# Altium footprint library Analog Devices Data Converters Analog-to-Digital Converters.PcbLib: 279 footprints (part 15 of 18)
Each footprint in its own frame and in the unit in brackets; x right, y up, seen from the top. Pads: shape width x height; smd on the part's side, far side on the other; paste and mask are expansions set on the pad; w line width, h text height; cw(c..) or ccw(c..) is an arc to the next point about the centre after c.
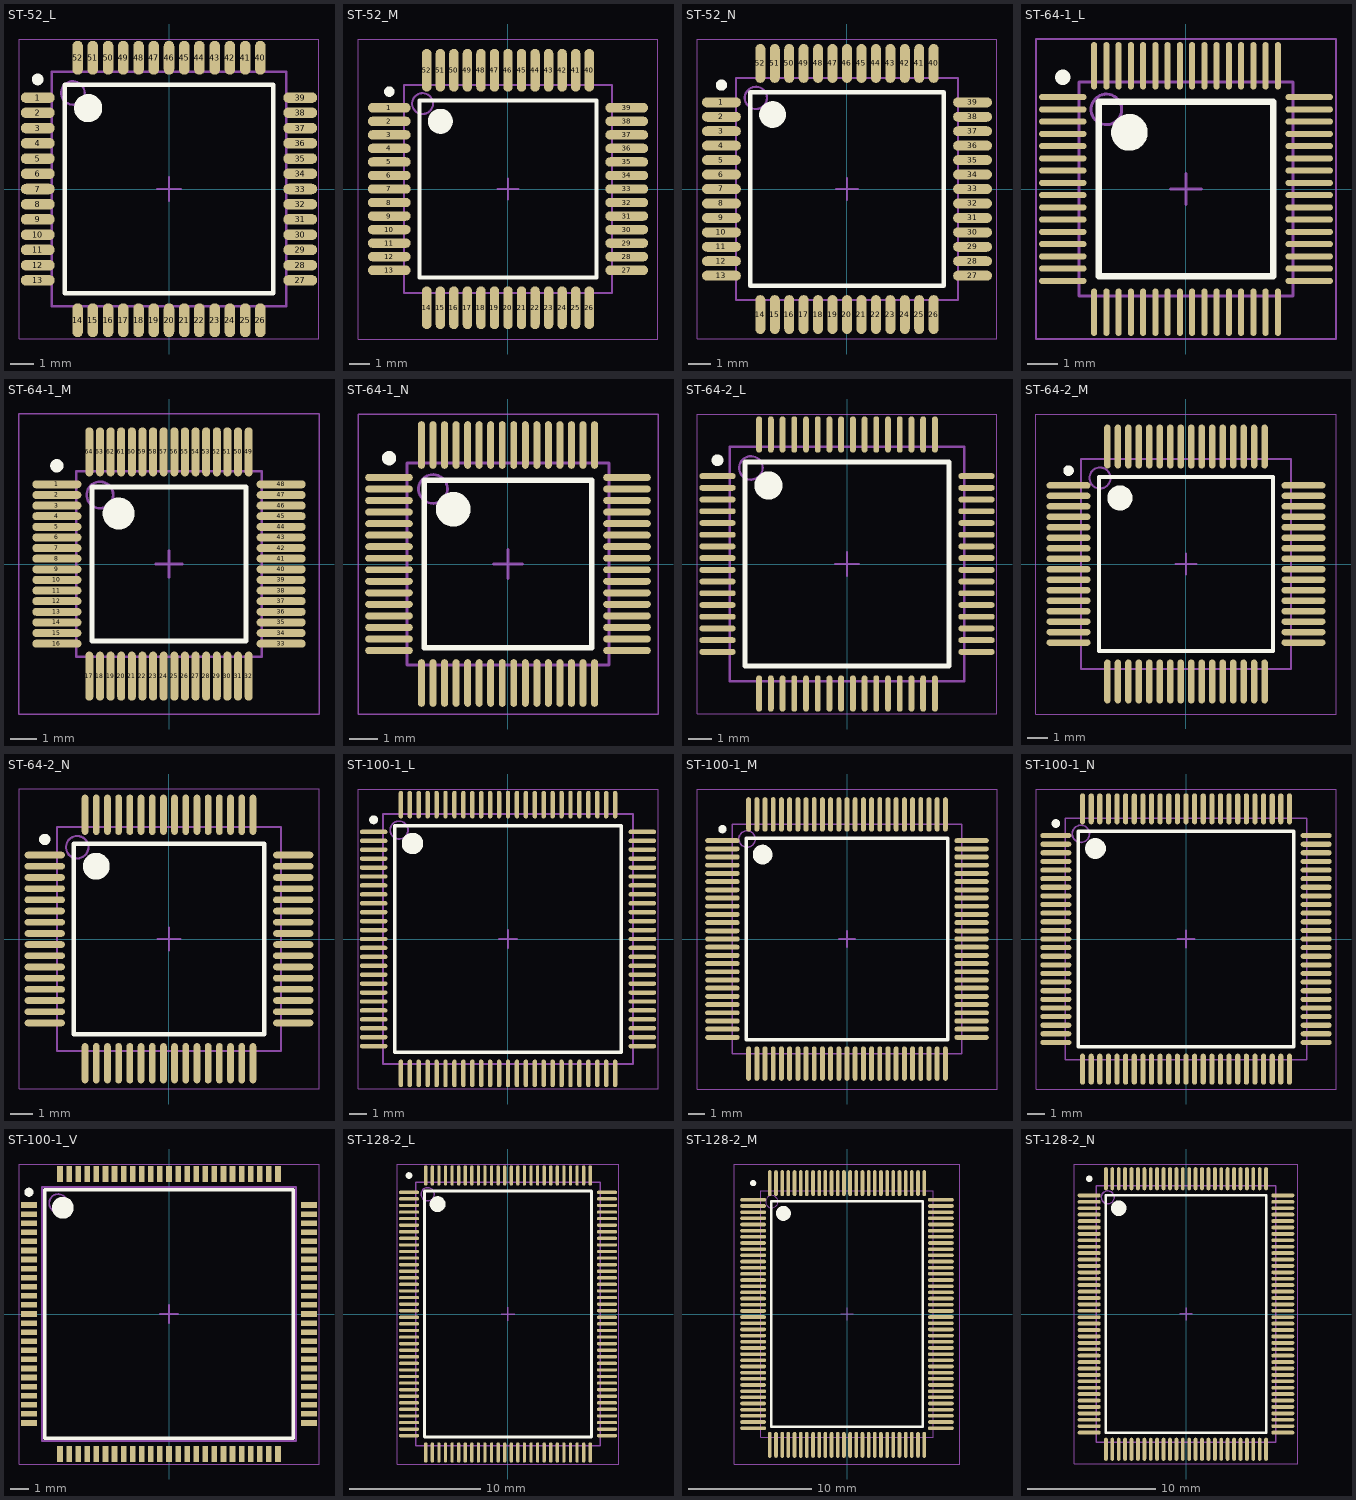
[diagram p14: the footprints below, top view; thin cyan lines are the x and y axes]

## ST-52_L [mm] "Thin QFP, 52-Leads, Body 10 x 10mm, Pitch 0.65mm, IPC High Density"
height 1.2
pads (52):
  oval 1.45x0.45 smd: 1(-5.6,3.9) 2(-5.6,3.25) 3(-5.6,2.6) 4(-5.6,1.95) 5(-5.6,1.3) 6(-5.6,0.65) 7(-5.6,0) 8(-5.6,-0.65) 9(-5.6,-1.3) 10(-5.6,-1.95) 11(-5.6,-2.6) 12(-5.6,-3.25) 13(-5.6,-3.9) 27(5.6,-3.9) 28(5.6,-3.25) 29(5.6,-2.6) 30(5.6,-1.95) 31(5.6,-1.3) 32(5.6,-0.65) 33(5.6,0) 34(5.6,0.65) 35(5.6,1.3) 36(5.6,1.95) 37(5.6,2.6) 38(5.6,3.25) 39(5.6,3.9)
  oval 0.45x1.45 smd: 14(-3.9,-5.6) 15(-3.25,-5.6) 16(-2.6,-5.6) 17(-1.95,-5.6) 18(-1.3,-5.6) 19(-0.65,-5.6) 20(0,-5.6) 21(0.65,-5.6) 22(1.3,-5.6) 23(1.95,-5.6) 24(2.6,-5.6) 25(3.25,-5.6) 26(3.9,-5.6) 40(3.9,5.6) 41(3.25,5.6) 42(2.6,5.6) 43(1.95,5.6) 44(1.3,5.6) 45(0.65,5.6) 46(0,5.6) 47(-0.65,5.6) 48(-1.3,5.6) 49(-1.95,5.6) 50(-2.6,5.6) 51(-3.25,5.6) 52(-3.9,5.6)
Top Overlay:
  circle w0.25: c-5.6,4.675 r0.125
  circle w0.6: c-3.45,3.45 r0.3
  lines w0.2: -4.45,-4.45 -4.45,4.45 4.45,4.45 4.45,-4.45 -4.45,-4.45
Mechanical 13:
  circle w0.1: c-4.1,4.1 r0.5
  lines w0.1: -5,-5 -5,5 5,5 5,-5 -5,-5
Mechanical 15:
  lines w0.05: -6.4,-6.4 -6.4,6.4 6.4,6.4 6.4,-6.4 -6.4,-6.4
  lines w0.1: -0.5,0 0.5,0 ; 0,-0.5 0,0.5
3D body: height 1.2, standoff 0, extent -5,-5 5,5

## ST-52_M [mm] "Thin QFP, 52-Leads, Body 10 x 10mm, Pitch 0.65mm, IPC Low Density"
height 1.2
pads (52):
  oval 2.05x0.45 smd: 1(-5.7,3.9) 2(-5.7,3.25) 3(-5.7,2.6) 4(-5.7,1.95) 5(-5.7,1.3) 6(-5.7,0.65) 7(-5.7,0) 8(-5.7,-0.65) 9(-5.7,-1.3) 10(-5.7,-1.95) 11(-5.7,-2.6) 12(-5.7,-3.25) 13(-5.7,-3.9) 27(5.7,-3.9) 28(5.7,-3.25) 29(5.7,-2.6) 30(5.7,-1.95) 31(5.7,-1.3) 32(5.7,-0.65) 33(5.7,0) 34(5.7,0.65) 35(5.7,1.3) 36(5.7,1.95) 37(5.7,2.6) 38(5.7,3.25) 39(5.7,3.9)
  oval 0.45x2.05 smd: 14(-3.9,-5.7) 15(-3.25,-5.7) 16(-2.6,-5.7) 17(-1.95,-5.7) 18(-1.3,-5.7) 19(-0.65,-5.7) 20(0,-5.7) 21(0.65,-5.7) 22(1.3,-5.7) 23(1.95,-5.7) 24(2.6,-5.7) 25(3.25,-5.7) 26(3.9,-5.7) 40(3.9,5.7) 41(3.25,5.7) 42(2.6,5.7) 43(1.95,5.7) 44(1.3,5.7) 45(0.65,5.7) 46(0,5.7) 47(-0.65,5.7) 48(-1.3,5.7) 49(-1.95,5.7) 50(-2.6,5.7) 51(-3.25,5.7) 52(-3.9,5.7)
Top Overlay:
  circle w0.6: c-3.25,3.25 r0.3
  circle w0.25: c-5.7,4.675 r0.125
  lines w0.2: -4.25,-4.25 4.25,-4.25 4.25,4.25 -4.25,4.25 -4.25,-4.25
Mechanical 13:
  circle w0.1: c-4.1,4.1 r0.5
  lines w0.1: -5,-5 5,-5 5,5 -5,5 -5,-5
Mechanical 15:
  lines w0.05: -7.2,-7.2 7.2,-7.2 7.2,7.2 -7.2,7.2 -7.2,-7.2
  lines w0.1: -0.5,0 0.5,0 ; 0,-0.5 0,0.5
3D body: height 1.2, standoff 0, extent -5,-5 5,5

## ST-52_N [mm] "Thin QFP, 52-Leads, Body 10 x 10mm, Pitch 0.65mm, IPC Medium Density"
height 1.2
pads (52):
  oval 1.75x0.45 smd: 1(-5.65,3.9) 2(-5.65,3.25) 3(-5.65,2.6) 4(-5.65,1.95) 5(-5.65,1.3) 6(-5.65,0.65) 7(-5.65,0) 8(-5.65,-0.65) 9(-5.65,-1.3) 10(-5.65,-1.95) 11(-5.65,-2.6) 12(-5.65,-3.25) 13(-5.65,-3.9) 27(5.65,-3.9) 28(5.65,-3.25) 29(5.65,-2.6) 30(5.65,-1.95) 31(5.65,-1.3) 32(5.65,-0.65) 33(5.65,0) 34(5.65,0.65) 35(5.65,1.3) 36(5.65,1.95) 37(5.65,2.6) 38(5.65,3.25) 39(5.65,3.9)
  oval 0.45x1.75 smd: 14(-3.9,-5.65) 15(-3.25,-5.65) 16(-2.6,-5.65) 17(-1.95,-5.65) 18(-1.3,-5.65) 19(-0.65,-5.65) 20(0,-5.65) 21(0.65,-5.65) 22(1.3,-5.65) 23(1.95,-5.65) 24(2.6,-5.65) 25(3.25,-5.65) 26(3.9,-5.65) 40(3.9,5.65) 41(3.25,5.65) 42(2.6,5.65) 43(1.95,5.65) 44(1.3,5.65) 45(0.65,5.65) 46(0,5.65) 47(-0.65,5.65) 48(-1.3,5.65) 49(-1.95,5.65) 50(-2.6,5.65) 51(-3.25,5.65) 52(-3.9,5.65)
Top Overlay:
  circle w0.25: c-5.65,4.675 r0.125
  circle w0.6: c-3.35,3.35 r0.3
  lines w0.2: -4.35,-4.35 -4.35,4.35 4.35,4.35 4.35,-4.35 -4.35,-4.35
Mechanical 13:
  circle w0.1: c-4.1,4.1 r0.5
  lines w0.1: -5,-5 -5,5 5,5 5,-5 -5,-5
Mechanical 15:
  lines w0.05: -6.75,-6.75 -6.75,6.75 6.75,6.75 6.75,-6.75 -6.75,-6.75
  lines w0.1: -0.5,0 0.5,0 ; 0,-0.5 0,0.5
3D body: height 1.2, standoff 0, extent -5,-5 5,5

## ST-64-1_L [mm] "Thin QFP, 64-Leads, Body 7x7mm, Pitch 0.4mm, IPC High Density"
height 1.6
pads (64):
  oval 1.55x0.2 smd: 1(-4.025,3) 2(-4.025,2.6) 3(-4.025,2.2) 4(-4.025,1.8) 5(-4.025,1.4) 6(-4.025,1) 7(-4.025,0.6) 8(-4.025,0.2) 9(-4.025,-0.2) 10(-4.025,-0.6) 11(-4.025,-1) 12(-4.025,-1.4) 13(-4.025,-1.8) 14(-4.025,-2.2) 15(-4.025,-2.6) 16(-4.025,-3) 33(4.025,-3) 34(4.025,-2.6) 35(4.025,-2.2) 36(4.025,-1.8) 37(4.025,-1.4) 38(4.025,-1) 39(4.025,-0.6) 40(4.025,-0.2) 41(4.025,0.2) 42(4.025,0.6) 43(4.025,1) 44(4.025,1.4) 45(4.025,1.8) 46(4.025,2.2) 47(4.025,2.6) 48(4.025,3)
  oval 0.2x1.55 smd: 17(-3,-4.025) 18(-2.6,-4.025) 19(-2.2,-4.025) 20(-1.8,-4.025) 21(-1.4,-4.025) 22(-1,-4.025) 23(-0.6,-4.025) 24(-0.2,-4.025) 25(0.2,-4.025) 26(0.6,-4.025) 27(1,-4.025) 28(1.4,-4.025) 29(1.8,-4.025) 30(2.2,-4.025) 31(2.6,-4.025) 32(3,-4.025) 49(3,4.025) 50(2.6,4.025) 51(2.2,4.025) 52(1.8,4.025) 53(1.4,4.025) 54(1,4.025) 55(0.6,4.025) 56(0.2,4.025) 57(-0.2,4.025) 58(-0.6,4.025) 59(-1,4.025) 60(-1.4,4.025) 61(-1.8,4.025) 62(-2.2,4.025) 63(-2.6,4.025) 64(-3,4.025)
Top Overlay:
  circle w0.25: c-4.025,3.65 r0.125
  circle w0.6: c-1.85,1.85 r0.3
  lines w0.2: -2.85,-2.85 -2.85,2.85 2.85,2.85 2.85,-2.85 -2.85,-2.85
Mechanical 13:
  circle w0.1: c-2.6,2.6 r0.5
  lines w0.1: -3.5,-3.5 -3.5,3.5 3.5,3.5 3.5,-3.5 -3.5,-3.5
Mechanical 15:
  lines w0.05: -4.9,-4.9 -4.9,4.9 4.9,4.9 4.9,-4.9 -4.9,-4.9
  lines w0.1: -0.5,0 0.5,0 ; 0,-0.5 0,0.5
3D body: height 1.6, standoff 0.05, extent -3.5,-3.5 3.5,3.5

## ST-64-1_M [mm] "Thin QFP, 64-Leads, Body 7x7mm, Pitch 0.4mm, IPC Low Density"
height 1.6
pads (64):
  oval 1.85x0.3 smd: 1(-4.225,3) 2(-4.225,2.6) 3(-4.225,2.2) 4(-4.225,1.8) 5(-4.225,1.4) 6(-4.225,1) 7(-4.225,0.6) 8(-4.225,0.2) 9(-4.225,-0.2) 10(-4.225,-0.6) 11(-4.225,-1) 12(-4.225,-1.4) 13(-4.225,-1.8) 14(-4.225,-2.2) 15(-4.225,-2.6) 16(-4.225,-3) 33(4.225,-3) 34(4.225,-2.6) 35(4.225,-2.2) 36(4.225,-1.8) 37(4.225,-1.4) 38(4.225,-1) 39(4.225,-0.6) 40(4.225,-0.2) 41(4.225,0.2) 42(4.225,0.6) 43(4.225,1) 44(4.225,1.4) 45(4.225,1.8) 46(4.225,2.2) 47(4.225,2.6) 48(4.225,3)
  oval 0.3x1.85 smd: 17(-3,-4.225) 18(-2.6,-4.225) 19(-2.2,-4.225) 20(-1.8,-4.225) 21(-1.4,-4.225) 22(-1,-4.225) 23(-0.6,-4.225) 24(-0.2,-4.225) 25(0.2,-4.225) 26(0.6,-4.225) 27(1,-4.225) 28(1.4,-4.225) 29(1.8,-4.225) 30(2.2,-4.225) 31(2.6,-4.225) 32(3,-4.225) 49(3,4.225) 50(2.6,4.225) 51(2.2,4.225) 52(1.8,4.225) 53(1.4,4.225) 54(1,4.225) 55(0.6,4.225) 56(0.2,4.225) 57(-0.2,4.225) 58(-0.6,4.225) 59(-1,4.225) 60(-1.4,4.225) 61(-1.8,4.225) 62(-2.2,4.225) 63(-2.6,4.225) 64(-3,4.225)
Top Overlay:
  circle w0.25: c-4.225,3.7 r0.125
  circle w0.6: c-1.9,1.9 r0.3
  lines w0.2: -2.9,-2.9 -2.9,2.9 2.9,2.9 2.9,-2.9 -2.9,-2.9
Mechanical 13:
  circle w0.1: c-2.6,2.6 r0.5
  lines w0.1: -3.5,-3.5 -3.5,3.5 3.5,3.5 3.5,-3.5 -3.5,-3.5
Mechanical 15:
  lines w0.05: -5.65,-5.65 -5.65,5.65 5.65,5.65 5.65,-5.65 -5.65,-5.65
  lines w0.1: -0.5,0 0.5,0 ; 0,-0.5 0,0.5
3D body: height 1.6, standoff 0.05, extent -3.5,-3.5 3.5,3.5

## ST-64-1_N [mm] "Thin QFP, 64-Leads, Body 7x7mm, Pitch 0.4mm, IPC Medium Density"
height 1.6
pads (64):
  oval 1.65x0.24 smd: 1(-4.125,3) 2(-4.125,2.6) 3(-4.125,2.2) 4(-4.125,1.8) 5(-4.125,1.4) 6(-4.125,1) 7(-4.125,0.6) 8(-4.125,0.2) 9(-4.125,-0.2) 10(-4.125,-0.6) 11(-4.125,-1) 12(-4.125,-1.4) 13(-4.125,-1.8) 14(-4.125,-2.2) 15(-4.125,-2.6) 16(-4.125,-3) 33(4.125,-3) 34(4.125,-2.6) 35(4.125,-2.2) 36(4.125,-1.8) 37(4.125,-1.4) 38(4.125,-1) 39(4.125,-0.6) 40(4.125,-0.2) 41(4.125,0.2) 42(4.125,0.6) 43(4.125,1) 44(4.125,1.4) 45(4.125,1.8) 46(4.125,2.2) 47(4.125,2.6) 48(4.125,3)
  oval 0.24x1.65 smd: 17(-3,-4.125) 18(-2.6,-4.125) 19(-2.2,-4.125) 20(-1.8,-4.125) 21(-1.4,-4.125) 22(-1,-4.125) 23(-0.6,-4.125) 24(-0.2,-4.125) 25(0.2,-4.125) 26(0.6,-4.125) 27(1,-4.125) 28(1.4,-4.125) 29(1.8,-4.125) 30(2.2,-4.125) 31(2.6,-4.125) 32(3,-4.125) 49(3,4.125) 50(2.6,4.125) 51(2.2,4.125) 52(1.8,4.125) 53(1.4,4.125) 54(1,4.125) 55(0.6,4.125) 56(0.2,4.125) 57(-0.2,4.125) 58(-0.6,4.125) 59(-1,4.125) 60(-1.4,4.125) 61(-1.8,4.125) 62(-2.2,4.125) 63(-2.6,4.125) 64(-3,4.125)
Top Overlay:
  circle w0.6: c-1.9,1.9 r0.3
  circle w0.25: c-4.125,3.67 r0.125
  lines w0.2: -2.9,-2.9 2.9,-2.9 2.9,2.9 -2.9,2.9 -2.9,-2.9
Mechanical 13:
  circle w0.1: c-2.6,2.6 r0.5
  lines w0.1: -3.5,-3.5 3.5,-3.5 3.5,3.5 -3.5,3.5 -3.5,-3.5
Mechanical 15:
  lines w0.05: -5.2,-5.2 5.2,-5.2 5.2,5.2 -5.2,5.2 -5.2,-5.2
  lines w0.1: -0.5,0 0.5,0 ; 0,-0.5 0,0.5
3D body: height 1.6, standoff 0.05, extent -3.5,-3.5 3.5,3.5

## ST-64-2_L [mm] "Thin QFP, 64-Leads, Body 10x10mm, Pitch 0.5mm, IPC High Density"
height 1.6
pads (64):
  oval 1.55x0.25 smd: 1(-5.525,3.75) 2(-5.525,3.25) 3(-5.525,2.75) 4(-5.525,2.25) 5(-5.525,1.75) 6(-5.525,1.25) 7(-5.525,0.75) 8(-5.525,0.25) 9(-5.525,-0.25) 10(-5.525,-0.75) 11(-5.525,-1.25) 12(-5.525,-1.75) 13(-5.525,-2.25) 14(-5.525,-2.75) 15(-5.525,-3.25) 16(-5.525,-3.75) 33(5.525,-3.75) 34(5.525,-3.25) 35(5.525,-2.75) 36(5.525,-2.25) 37(5.525,-1.75) 38(5.525,-1.25) 39(5.525,-0.75) 40(5.525,-0.25) 41(5.525,0.25) 42(5.525,0.75) 43(5.525,1.25) 44(5.525,1.75) 45(5.525,2.25) 46(5.525,2.75) 47(5.525,3.25) 48(5.525,3.75)
  oval 0.25x1.55 smd: 17(-3.75,-5.525) 18(-3.25,-5.525) 19(-2.75,-5.525) 20(-2.25,-5.525) 21(-1.75,-5.525) 22(-1.25,-5.525) 23(-0.75,-5.525) 24(-0.25,-5.525) 25(0.25,-5.525) 26(0.75,-5.525) 27(1.25,-5.525) 28(1.75,-5.525) 29(2.25,-5.525) 30(2.75,-5.525) 31(3.25,-5.525) 32(3.75,-5.525) 49(3.75,5.525) 50(3.25,5.525) 51(2.75,5.525) 52(2.25,5.525) 53(1.75,5.525) 54(1.25,5.525) 55(0.75,5.525) 56(0.25,5.525) 57(-0.25,5.525) 58(-0.75,5.525) 59(-1.25,5.525) 60(-1.75,5.525) 61(-2.25,5.525) 62(-2.75,5.525) 63(-3.25,5.525) 64(-3.75,5.525)
Top Overlay:
  circle w0.25: c-5.525,4.425 r0.125
  circle w0.6: c-3.35,3.35 r0.3
  lines w0.2: -4.35,-4.35 -4.35,4.35 4.35,4.35 4.35,-4.35 -4.35,-4.35
Mechanical 13:
  circle w0.1: c-4.1,4.1 r0.5
  lines w0.1: -5,-5 -5,5 5,5 5,-5 -5,-5
Mechanical 15:
  lines w0.05: -6.4,-6.4 -6.4,6.4 6.4,6.4 6.4,-6.4 -6.4,-6.4
  lines w0.1: -0.5,0 0.5,0 ; 0,-0.5 0,0.5
3D body: height 1.6, standoff 0, extent -5,-5 5,5

## ST-64-2_M [mm] "Thin QFP, 64-Leads, Body 10x10mm, Pitch 0.5mm, IPC Low Density"
height 1.6
pads (64):
  oval 2.1x0.3 smd: 1(-5.6,3.75) 2(-5.6,3.25) 3(-5.6,2.75) 4(-5.6,2.25) 5(-5.6,1.75) 6(-5.6,1.25) 7(-5.6,0.75) 8(-5.6,0.25) 9(-5.6,-0.25) 10(-5.6,-0.75) 11(-5.6,-1.25) 12(-5.6,-1.75) 13(-5.6,-2.25) 14(-5.6,-2.75) 15(-5.6,-3.25) 16(-5.6,-3.75) 33(5.6,-3.75) 34(5.6,-3.25) 35(5.6,-2.75) 36(5.6,-2.25) 37(5.6,-1.75) 38(5.6,-1.25) 39(5.6,-0.75) 40(5.6,-0.25) 41(5.6,0.25) 42(5.6,0.75) 43(5.6,1.25) 44(5.6,1.75) 45(5.6,2.25) 46(5.6,2.75) 47(5.6,3.25) 48(5.6,3.75)
  oval 0.3x2.1 smd: 17(-3.75,-5.6) 18(-3.25,-5.6) 19(-2.75,-5.6) 20(-2.25,-5.6) 21(-1.75,-5.6) 22(-1.25,-5.6) 23(-0.75,-5.6) 24(-0.25,-5.6) 25(0.25,-5.6) 26(0.75,-5.6) 27(1.25,-5.6) 28(1.75,-5.6) 29(2.25,-5.6) 30(2.75,-5.6) 31(3.25,-5.6) 32(3.75,-5.6) 49(3.75,5.6) 50(3.25,5.6) 51(2.75,5.6) 52(2.25,5.6) 53(1.75,5.6) 54(1.25,5.6) 55(0.75,5.6) 56(0.25,5.6) 57(-0.25,5.6) 58(-0.75,5.6) 59(-1.25,5.6) 60(-1.75,5.6) 61(-2.25,5.6) 62(-2.75,5.6) 63(-3.25,5.6) 64(-3.75,5.6)
Top Overlay:
  circle w0.25: c-5.6,4.45 r0.125
  circle w0.6: c-3.15,3.15 r0.3
  lines w0.2: -4.15,-4.15 -4.15,4.15 4.15,4.15 4.15,-4.15 -4.15,-4.15
Mechanical 13:
  circle w0.1: c-4.1,4.1 r0.5
  lines w0.1: -5,-5 -5,5 5,5 5,-5 -5,-5
Mechanical 15:
  lines w0.05: -7.15,-7.15 -7.15,7.15 7.15,7.15 7.15,-7.15 -7.15,-7.15
  lines w0.1: -0.5,0 0.5,0 ; 0,-0.5 0,0.5
3D body: height 1.6, standoff 0, extent -5,-5 5,5

## ST-64-2_N [mm] "Thin QFP, 64-Leads, Body 10x10mm, Pitch 0.5mm, IPC Medium Density"
height 1.6
pads (64):
  oval 1.8x0.3 smd: 1(-5.55,3.75) 2(-5.55,3.25) 3(-5.55,2.75) 4(-5.55,2.25) 5(-5.55,1.75) 6(-5.55,1.25) 7(-5.55,0.75) 8(-5.55,0.25) 9(-5.55,-0.25) 10(-5.55,-0.75) 11(-5.55,-1.25) 12(-5.55,-1.75) 13(-5.55,-2.25) 14(-5.55,-2.75) 15(-5.55,-3.25) 16(-5.55,-3.75) 33(5.55,-3.75) 34(5.55,-3.25) 35(5.55,-2.75) 36(5.55,-2.25) 37(5.55,-1.75) 38(5.55,-1.25) 39(5.55,-0.75) 40(5.55,-0.25) 41(5.55,0.25) 42(5.55,0.75) 43(5.55,1.25) 44(5.55,1.75) 45(5.55,2.25) 46(5.55,2.75) 47(5.55,3.25) 48(5.55,3.75)
  oval 0.3x1.8 smd: 17(-3.75,-5.55) 18(-3.25,-5.55) 19(-2.75,-5.55) 20(-2.25,-5.55) 21(-1.75,-5.55) 22(-1.25,-5.55) 23(-0.75,-5.55) 24(-0.25,-5.55) 25(0.25,-5.55) 26(0.75,-5.55) 27(1.25,-5.55) 28(1.75,-5.55) 29(2.25,-5.55) 30(2.75,-5.55) 31(3.25,-5.55) 32(3.75,-5.55) 49(3.75,5.55) 50(3.25,5.55) 51(2.75,5.55) 52(2.25,5.55) 53(1.75,5.55) 54(1.25,5.55) 55(0.75,5.55) 56(0.25,5.55) 57(-0.25,5.55) 58(-0.75,5.55) 59(-1.25,5.55) 60(-1.75,5.55) 61(-2.25,5.55) 62(-2.75,5.55) 63(-3.25,5.55) 64(-3.75,5.55)
Top Overlay:
  circle w0.6: c-3.25,3.25 r0.3
  circle w0.25: c-5.55,4.45 r0.125
  lines w0.2: -4.25,-4.25 4.25,-4.25 4.25,4.25 -4.25,4.25 -4.25,-4.25
Mechanical 13:
  circle w0.1: c-4.1,4.1 r0.5
  lines w0.1: -5,-5 5,-5 5,5 -5,5 -5,-5
Mechanical 15:
  lines w0.05: -6.7,-6.7 6.7,-6.7 6.7,6.7 -6.7,6.7 -6.7,-6.7
  lines w0.1: -0.5,0 0.5,0 ; 0,-0.5 0,0.5
3D body: height 1.6, standoff 0, extent -5,-5 5,5

## ST-100-1_L [mm] "Thin QFP, 100-Leads, Body 14x14mm, Pitch 0.5mm, IPC High Density"
height 1.6
pads (100):
  oval 1.55x0.25 smd: 1(-7.525,6) 2(-7.525,5.5) 3(-7.525,5) 4(-7.525,4.5) 5(-7.525,4) 6(-7.525,3.5) 7(-7.525,3) 8(-7.525,2.5) 9(-7.525,2) 10(-7.525,1.5) 11(-7.525,1) 12(-7.525,0.5) 13(-7.525,0) 14(-7.525,-0.5) 15(-7.525,-1) 16(-7.525,-1.5) 17(-7.525,-2) 18(-7.525,-2.5) 19(-7.525,-3) 20(-7.525,-3.5) 21(-7.525,-4) 22(-7.525,-4.5) 23(-7.525,-5) 24(-7.525,-5.5) 25(-7.525,-6) 51(7.525,-6) 52(7.525,-5.5) 53(7.525,-5) 54(7.525,-4.5) 55(7.525,-4) 56(7.525,-3.5) 57(7.525,-3) 58(7.525,-2.5) 59(7.525,-2) 60(7.525,-1.5) 61(7.525,-1) 62(7.525,-0.5) 63(7.525,0) 64(7.525,0.5) 65(7.525,1) 66(7.525,1.5) 67(7.525,2) 68(7.525,2.5) 69(7.525,3) 70(7.525,3.5) 71(7.525,4) 72(7.525,4.5) 73(7.525,5) 74(7.525,5.5) 75(7.525,6)
  oval 0.25x1.55 smd: 26(-6,-7.525) 27(-5.5,-7.525) 28(-5,-7.525) 29(-4.5,-7.525) 30(-4,-7.525) 31(-3.5,-7.525) 32(-3,-7.525) 33(-2.5,-7.525) 34(-2,-7.525) 35(-1.5,-7.525) 36(-1,-7.525) 37(-0.5,-7.525) 38(0,-7.525) 39(0.5,-7.525) 40(1,-7.525) 41(1.5,-7.525) 42(2,-7.525) 43(2.5,-7.525) 44(3,-7.525) 45(3.5,-7.525) 46(4,-7.525) 47(4.5,-7.525) 48(5,-7.525) 49(5.5,-7.525) 50(6,-7.525) 76(6,7.525) 77(5.5,7.525) 78(5,7.525) 79(4.5,7.525) 80(4,7.525) 81(3.5,7.525) 82(3,7.525) 83(2.5,7.525) 84(2,7.525) 85(1.5,7.525) 86(1,7.525) 87(0.5,7.525) 88(0,7.525) 89(-0.5,7.525) 90(-1,7.525) 91(-1.5,7.525) 92(-2,7.525) 93(-2.5,7.525) 94(-3,7.525) 95(-3.5,7.525) 96(-4,7.525) 97(-4.5,7.525) 98(-5,7.525) 99(-5.5,7.525) 100(-6,7.525)
Top Overlay:
  circle w0.25: c-7.525,6.675 r0.125
  circle w0.6: c-5.35,5.35 r0.3
  lines w0.2: -6.35,-6.35 -6.35,6.35 6.35,6.35 6.35,-6.35 -6.35,-6.35
Mechanical 13:
  circle w0.1: c-6.1,6.1 r0.5
  lines w0.1: -7,-7 -7,7 7,7 7,-7 -7,-7
Mechanical 15:
  lines w0.05: -8.4,-8.4 -8.4,8.4 8.4,8.4 8.4,-8.4 -8.4,-8.4
  lines w0.1: -0.5,0 0.5,0 ; 0,-0.5 0,0.5
3D body: height 1.6, standoff 0, extent -7,-7 7,7

## ST-100-1_M [mm] "Thin QFP, 100-Leads, Body 14x14mm, Pitch 0.5mm, IPC Low Density"
height 1.6
pads (100):
  oval 2.1x0.3 smd: 1(-7.6,6) 2(-7.6,5.5) 3(-7.6,5) 4(-7.6,4.5) 5(-7.6,4) 6(-7.6,3.5) 7(-7.6,3) 8(-7.6,2.5) 9(-7.6,2) 10(-7.6,1.5) 11(-7.6,1) 12(-7.6,0.5) 13(-7.6,0) 14(-7.6,-0.5) 15(-7.6,-1) 16(-7.6,-1.5) 17(-7.6,-2) 18(-7.6,-2.5) 19(-7.6,-3) 20(-7.6,-3.5) 21(-7.6,-4) 22(-7.6,-4.5) 23(-7.6,-5) 24(-7.6,-5.5) 25(-7.6,-6) 51(7.6,-6) 52(7.6,-5.5) 53(7.6,-5) 54(7.6,-4.5) 55(7.6,-4) 56(7.6,-3.5) 57(7.6,-3) 58(7.6,-2.5) 59(7.6,-2) 60(7.6,-1.5) 61(7.6,-1) 62(7.6,-0.5) 63(7.6,0) 64(7.6,0.5) 65(7.6,1) 66(7.6,1.5) 67(7.6,2) 68(7.6,2.5) 69(7.6,3) 70(7.6,3.5) 71(7.6,4) 72(7.6,4.5) 73(7.6,5) 74(7.6,5.5) 75(7.6,6)
  oval 0.3x2.1 smd: 26(-6,-7.6) 27(-5.5,-7.6) 28(-5,-7.6) 29(-4.5,-7.6) 30(-4,-7.6) 31(-3.5,-7.6) 32(-3,-7.6) 33(-2.5,-7.6) 34(-2,-7.6) 35(-1.5,-7.6) 36(-1,-7.6) 37(-0.5,-7.6) 38(0,-7.6) 39(0.5,-7.6) 40(1,-7.6) 41(1.5,-7.6) 42(2,-7.6) 43(2.5,-7.6) 44(3,-7.6) 45(3.5,-7.6) 46(4,-7.6) 47(4.5,-7.6) 48(5,-7.6) 49(5.5,-7.6) 50(6,-7.6) 76(6,7.6) 77(5.5,7.6) 78(5,7.6) 79(4.5,7.6) 80(4,7.6) 81(3.5,7.6) 82(3,7.6) 83(2.5,7.6) 84(2,7.6) 85(1.5,7.6) 86(1,7.6) 87(0.5,7.6) 88(0,7.6) 89(-0.5,7.6) 90(-1,7.6) 91(-1.5,7.6) 92(-2,7.6) 93(-2.5,7.6) 94(-3,7.6) 95(-3.5,7.6) 96(-4,7.6) 97(-4.5,7.6) 98(-5,7.6) 99(-5.5,7.6) 100(-6,7.6)
Top Overlay:
  circle w0.25: c-7.6,6.7 r0.125
  circle w0.6: c-5.15,5.15 r0.3
  lines w0.2: -6.15,-6.15 -6.15,6.15 6.15,6.15 6.15,-6.15 -6.15,-6.15
Mechanical 13:
  circle w0.1: c-6.1,6.1 r0.5
  lines w0.1: -7,-7 -7,7 7,7 7,-7 -7,-7
Mechanical 15:
  lines w0.05: -9.15,-9.15 -9.15,9.15 9.15,9.15 9.15,-9.15 -9.15,-9.15
  lines w0.1: -0.5,0 0.5,0 ; 0,-0.5 0,0.5
3D body: height 1.6, standoff 0, extent -7,-7 7,7

## ST-100-1_N [mm] "Thin QFP, 100-Leads, Body 14x14mm, Pitch 0.5mm, IPC Medium Density"
height 1.6
pads (100):
  oval 1.8x0.3 smd: 1(-7.55,6) 2(-7.55,5.5) 3(-7.55,5) 4(-7.55,4.5) 5(-7.55,4) 6(-7.55,3.5) 7(-7.55,3) 8(-7.55,2.5) 9(-7.55,2) 10(-7.55,1.5) 11(-7.55,1) 12(-7.55,0.5) 13(-7.55,0) 14(-7.55,-0.5) 15(-7.55,-1) 16(-7.55,-1.5) 17(-7.55,-2) 18(-7.55,-2.5) 19(-7.55,-3) 20(-7.55,-3.5) 21(-7.55,-4) 22(-7.55,-4.5) 23(-7.55,-5) 24(-7.55,-5.5) 25(-7.55,-6) 51(7.55,-6) 52(7.55,-5.5) 53(7.55,-5) 54(7.55,-4.5) 55(7.55,-4) 56(7.55,-3.5) 57(7.55,-3) 58(7.55,-2.5) 59(7.55,-2) 60(7.55,-1.5) 61(7.55,-1) 62(7.55,-0.5) 63(7.55,0) 64(7.55,0.5) 65(7.55,1) 66(7.55,1.5) 67(7.55,2) 68(7.55,2.5) 69(7.55,3) 70(7.55,3.5) 71(7.55,4) 72(7.55,4.5) 73(7.55,5) 74(7.55,5.5) 75(7.55,6)
  oval 0.3x1.8 smd: 26(-6,-7.55) 27(-5.5,-7.55) 28(-5,-7.55) 29(-4.5,-7.55) 30(-4,-7.55) 31(-3.5,-7.55) 32(-3,-7.55) 33(-2.5,-7.55) 34(-2,-7.55) 35(-1.5,-7.55) 36(-1,-7.55) 37(-0.5,-7.55) 38(0,-7.55) 39(0.5,-7.55) 40(1,-7.55) 41(1.5,-7.55) 42(2,-7.55) 43(2.5,-7.55) 44(3,-7.55) 45(3.5,-7.55) 46(4,-7.55) 47(4.5,-7.55) 48(5,-7.55) 49(5.5,-7.55) 50(6,-7.55) 76(6,7.55) 77(5.5,7.55) 78(5,7.55) 79(4.5,7.55) 80(4,7.55) 81(3.5,7.55) 82(3,7.55) 83(2.5,7.55) 84(2,7.55) 85(1.5,7.55) 86(1,7.55) 87(0.5,7.55) 88(0,7.55) 89(-0.5,7.55) 90(-1,7.55) 91(-1.5,7.55) 92(-2,7.55) 93(-2.5,7.55) 94(-3,7.55) 95(-3.5,7.55) 96(-4,7.55) 97(-4.5,7.55) 98(-5,7.55) 99(-5.5,7.55) 100(-6,7.55)
Top Overlay:
  circle w0.6: c-5.25,5.25 r0.3
  circle w0.25: c-7.55,6.7 r0.125
  lines w0.2: -6.25,-6.25 6.25,-6.25 6.25,6.25 -6.25,6.25 -6.25,-6.25
Mechanical 13:
  circle w0.1: c-6.1,6.1 r0.5
  lines w0.1: -7,-7 7,-7 7,7 -7,7 -7,-7
Mechanical 15:
  lines w0.05: -8.7,-8.7 8.7,-8.7 8.7,8.7 -8.7,8.7 -8.7,-8.7
  lines w0.1: -0.5,0 0.5,0 ; 0,-0.5 0,0.5
3D body: height 1.6, standoff 0, extent -7,-7 7,7

## ST-100-1_V [mm] "Thin QFP, 100-Leads, Body 14x14mm, Pitch 0.5mm, AD Recommended"
height 1.6
pads (100):
  rect 0.89x0.31 smd: 1(-7.715,6) 2(-7.715,5.5) 3(-7.715,5) 4(-7.715,4.5) 5(-7.715,4) 6(-7.715,3.5) 7(-7.715,3) 8(-7.715,2.5) 9(-7.715,2) 10(-7.715,1.5) 11(-7.715,1) 12(-7.715,0.5) 13(-7.715,0) 14(-7.715,-0.5) 15(-7.715,-1) 16(-7.715,-1.5) 17(-7.715,-2) 18(-7.715,-2.5) 19(-7.715,-3) 20(-7.715,-3.5) 21(-7.715,-4) 22(-7.715,-4.5) 23(-7.715,-5) 24(-7.715,-5.5) 25(-7.715,-6) 51(7.715,-6) 52(7.715,-5.5) 53(7.715,-5) 54(7.715,-4.5) 55(7.715,-4) 56(7.715,-3.5) 57(7.715,-3) 58(7.715,-2.5) 59(7.715,-2) 60(7.715,-1.5) 61(7.715,-1) 62(7.715,-0.5) 63(7.715,0) 64(7.715,0.5) 65(7.715,1) 66(7.715,1.5) 67(7.715,2) 68(7.715,2.5) 69(7.715,3) 70(7.715,3.5) 71(7.715,4) 72(7.715,4.5) 73(7.715,5) 74(7.715,5.5) 75(7.715,6)
  rect 0.31x0.89 smd: 26(-6,-7.715) 27(-5.5,-7.715) 28(-5,-7.715) 29(-4.5,-7.715) 30(-4,-7.715) 31(-3.5,-7.715) 32(-3,-7.715) 33(-2.5,-7.715) 34(-2,-7.715) 35(-1.5,-7.715) 36(-1,-7.715) 37(-0.5,-7.715) 38(0,-7.715) 39(0.5,-7.715) 40(1,-7.715) 41(1.5,-7.715) 42(2,-7.715) 43(2.5,-7.715) 44(3,-7.715) 45(3.5,-7.715) 46(4,-7.715) 47(4.5,-7.715) 48(5,-7.715) 49(5.5,-7.715) 50(6,-7.715) 76(6,7.715) 77(5.5,7.715) 78(5,7.715) 79(4.5,7.715) 80(4,7.715) 81(3.5,7.715) 82(3,7.715) 83(2.5,7.715) 84(2,7.715) 85(1.5,7.715) 86(1,7.715) 87(0.5,7.715) 88(0,7.715) 89(-0.5,7.715) 90(-1,7.715) 91(-1.5,7.715) 92(-2,7.715) 93(-2.5,7.715) 94(-3,7.715) 95(-3.5,7.715) 96(-4,7.715) 97(-4.5,7.715) 98(-5,7.715) 99(-5.5,7.715) 100(-6,7.715)
Top Overlay:
  circle w0.6: c-5.85,5.85 r0.3
  circle w0.25: c-7.715,6.705 r0.125
  lines w0.2: -6.85,-6.85 6.85,-6.85 6.85,6.85 -6.85,6.85 -6.85,-6.85
Mechanical 13:
  circle w0.1: c-6.1,6.1 r0.5
  lines w0.1: -7,-7 7,-7 7,7 -7,7 -7,-7
Mechanical 15:
  lines w0.05: -8.26,-8.26 8.26,-8.26 8.26,8.26 -8.26,8.26 -8.26,-8.26
  lines w0.1: -0.5,0 0.5,0 ; 0,-0.5 0,0.5
3D body: height 1.6, standoff 0, extent -7,-7 7,7

## ST-128-2_L [mm] "Thin QFP, 128-Leads, Body 20x14 mm, Pitch 0.5mm, IPC High Density"
height 1.6
pads (128):
  oval 1.55x0.25 smd: 1(-7.525,9.25) 2(-7.525,8.75) 3(-7.525,8.25) 4(-7.525,7.75) 5(-7.525,7.25) 6(-7.525,6.75) 7(-7.525,6.25) 8(-7.525,5.75) 9(-7.525,5.25) 10(-7.525,4.75) 11(-7.525,4.25) 12(-7.525,3.75) 13(-7.525,3.25) 14(-7.525,2.75) 15(-7.525,2.25) 16(-7.525,1.75) 17(-7.525,1.25) 18(-7.525,0.75) 19(-7.525,0.25) 20(-7.525,-0.25) 21(-7.525,-0.75) 22(-7.525,-1.25) 23(-7.525,-1.75) 24(-7.525,-2.25) 25(-7.525,-2.75) 26(-7.525,-3.25) 27(-7.525,-3.75) 28(-7.525,-4.25) 29(-7.525,-4.75) 30(-7.525,-5.25) 31(-7.525,-5.75) 32(-7.525,-6.25) 33(-7.525,-6.75) 34(-7.525,-7.25) 35(-7.525,-7.75) 36(-7.525,-8.25) 37(-7.525,-8.75) 38(-7.525,-9.25) 65(7.525,-9.25) 66(7.525,-8.75) 67(7.525,-8.25) 68(7.525,-7.75) 69(7.525,-7.25) 70(7.525,-6.75) 71(7.525,-6.25) 72(7.525,-5.75) 73(7.525,-5.25) 74(7.525,-4.75) 75(7.525,-4.25) 76(7.525,-3.75) 77(7.525,-3.25) 78(7.525,-2.75) 79(7.525,-2.25) 80(7.525,-1.75) 81(7.525,-1.25) 82(7.525,-0.75) 83(7.525,-0.25) 84(7.525,0.25) 85(7.525,0.75) 86(7.525,1.25) 87(7.525,1.75) 88(7.525,2.25) 89(7.525,2.75) 90(7.525,3.25) 91(7.525,3.75) 92(7.525,4.25) 93(7.525,4.75) 94(7.525,5.25) 95(7.525,5.75) 96(7.525,6.25) 97(7.525,6.75) 98(7.525,7.25) 99(7.525,7.75) 100(7.525,8.25) 101(7.525,8.75) 102(7.525,9.25)
  oval 0.25x1.55 smd: 39(-6.25,-10.525) 40(-5.75,-10.525) 41(-5.25,-10.525) 42(-4.75,-10.525) 43(-4.25,-10.525) 44(-3.75,-10.525) 45(-3.25,-10.525) 46(-2.75,-10.525) 47(-2.25,-10.525) 48(-1.75,-10.525) 49(-1.25,-10.525) 50(-0.75,-10.525) 51(-0.25,-10.525) 52(0.25,-10.525) 53(0.75,-10.525) 54(1.25,-10.525) 55(1.75,-10.525) 56(2.25,-10.525) 57(2.75,-10.525) 58(3.25,-10.525) 59(3.75,-10.525) 60(4.25,-10.525) 61(4.75,-10.525) 62(5.25,-10.525) 63(5.75,-10.525) 64(6.25,-10.525) 103(6.25,10.525) 104(5.75,10.525) 105(5.25,10.525) 106(4.75,10.525) 107(4.25,10.525) 108(3.75,10.525) 109(3.25,10.525) 110(2.75,10.525) 111(2.25,10.525) 112(1.75,10.525) 113(1.25,10.525) 114(0.75,10.525) 115(0.25,10.525) 116(-0.25,10.525) 117(-0.75,10.525) 118(-1.25,10.525) 119(-1.75,10.525) 120(-2.25,10.525) 121(-2.75,10.525) 122(-3.25,10.525) 123(-3.75,10.525) 124(-4.25,10.525) 125(-4.75,10.525) 126(-5.25,10.525) 127(-5.75,10.525) 128(-6.25,10.525)
Top Overlay:
  circle w0.25: c-7.525,10.525 r0.125
  circle w0.6: c-5.35,8.35 r0.3
  lines w0.2: -6.35,-9.35 -6.35,9.35 6.35,9.35 6.35,-9.35 -6.35,-9.35
Mechanical 13:
  circle w0.1: c-6.1,9.1 r0.5
  lines w0.1: -7,-10 -7,10 7,10 7,-10 -7,-10
Mechanical 15:
  lines w0.05: -8.4,-11.4 -8.4,11.4 8.4,11.4 8.4,-11.4 -8.4,-11.4
  lines w0.1: -0.5,0 0.5,0 ; 0,-0.5 0,0.5
3D body: height 1.6, standoff 0, extent -7,-10 7,10

## ST-128-2_M [mm] "Thin QFP, 128-Leads, Body 20x14 mm, Pitch 0.5mm, IPC Low Density"
height 1.6
pads (128):
  oval 2.1x0.3 smd: 1(-7.6,9.25) 2(-7.6,8.75) 3(-7.6,8.25) 4(-7.6,7.75) 5(-7.6,7.25) 6(-7.6,6.75) 7(-7.6,6.25) 8(-7.6,5.75) 9(-7.6,5.25) 10(-7.6,4.75) 11(-7.6,4.25) 12(-7.6,3.75) 13(-7.6,3.25) 14(-7.6,2.75) 15(-7.6,2.25) 16(-7.6,1.75) 17(-7.6,1.25) 18(-7.6,0.75) 19(-7.6,0.25) 20(-7.6,-0.25) 21(-7.6,-0.75) 22(-7.6,-1.25) 23(-7.6,-1.75) 24(-7.6,-2.25) 25(-7.6,-2.75) 26(-7.6,-3.25) 27(-7.6,-3.75) 28(-7.6,-4.25) 29(-7.6,-4.75) 30(-7.6,-5.25) 31(-7.6,-5.75) 32(-7.6,-6.25) 33(-7.6,-6.75) 34(-7.6,-7.25) 35(-7.6,-7.75) 36(-7.6,-8.25) 37(-7.6,-8.75) 38(-7.6,-9.25) 65(7.6,-9.25) 66(7.6,-8.75) 67(7.6,-8.25) 68(7.6,-7.75) 69(7.6,-7.25) 70(7.6,-6.75) 71(7.6,-6.25) 72(7.6,-5.75) 73(7.6,-5.25) 74(7.6,-4.75) 75(7.6,-4.25) 76(7.6,-3.75) 77(7.6,-3.25) 78(7.6,-2.75) 79(7.6,-2.25) 80(7.6,-1.75) 81(7.6,-1.25) 82(7.6,-0.75) 83(7.6,-0.25) 84(7.6,0.25) 85(7.6,0.75) 86(7.6,1.25) 87(7.6,1.75) 88(7.6,2.25) 89(7.6,2.75) 90(7.6,3.25) 91(7.6,3.75) 92(7.6,4.25) 93(7.6,4.75) 94(7.6,5.25) 95(7.6,5.75) 96(7.6,6.25) 97(7.6,6.75) 98(7.6,7.25) 99(7.6,7.75) 100(7.6,8.25) 101(7.6,8.75) 102(7.6,9.25)
  oval 0.3x2.1 smd: 39(-6.25,-10.6) 40(-5.75,-10.6) 41(-5.25,-10.6) 42(-4.75,-10.6) 43(-4.25,-10.6) 44(-3.75,-10.6) 45(-3.25,-10.6) 46(-2.75,-10.6) 47(-2.25,-10.6) 48(-1.75,-10.6) 49(-1.25,-10.6) 50(-0.75,-10.6) 51(-0.25,-10.6) 52(0.25,-10.6) 53(0.75,-10.6) 54(1.25,-10.6) 55(1.75,-10.6) 56(2.25,-10.6) 57(2.75,-10.6) 58(3.25,-10.6) 59(3.75,-10.6) 60(4.25,-10.6) 61(4.75,-10.6) 62(5.25,-10.6) 63(5.75,-10.6) 64(6.25,-10.6) 103(6.25,10.6) 104(5.75,10.6) 105(5.25,10.6) 106(4.75,10.6) 107(4.25,10.6) 108(3.75,10.6) 109(3.25,10.6) 110(2.75,10.6) 111(2.25,10.6) 112(1.75,10.6) 113(1.25,10.6) 114(0.75,10.6) 115(0.25,10.6) 116(-0.25,10.6) 117(-0.75,10.6) 118(-1.25,10.6) 119(-1.75,10.6) 120(-2.25,10.6) 121(-2.75,10.6) 122(-3.25,10.6) 123(-3.75,10.6) 124(-4.25,10.6) 125(-4.75,10.6) 126(-5.25,10.6) 127(-5.75,10.6) 128(-6.25,10.6)
Top Overlay:
  circle w0.6: c-5.15,8.15 r0.3
  circle w0.25: c-7.6,10.6 r0.125
  lines w0.2: -6.15,-9.15 6.15,-9.15 6.15,9.15 -6.15,9.15 -6.15,-9.15
Mechanical 13:
  circle w0.1: c-6.1,9.1 r0.5
  lines w0.1: -7,-10 7,-10 7,10 -7,10 -7,-10
Mechanical 15:
  lines w0.05: -9.15,-12.15 9.15,-12.15 9.15,12.15 -9.15,12.15 -9.15,-12.15
  lines w0.1: -0.5,0 0.5,0 ; 0,-0.5 0,0.5
3D body: height 1.6, standoff 0, extent -7,-10 7,10

## ST-128-2_N [mm] "Thin QFP, 128-Leads, Body 20x14 mm, Pitch 0.5mm, IPC Medium Density"
height 1.6
pads (128):
  oval 1.8x0.3 smd: 1(-7.55,9.25) 2(-7.55,8.75) 3(-7.55,8.25) 4(-7.55,7.75) 5(-7.55,7.25) 6(-7.55,6.75) 7(-7.55,6.25) 8(-7.55,5.75) 9(-7.55,5.25) 10(-7.55,4.75) 11(-7.55,4.25) 12(-7.55,3.75) 13(-7.55,3.25) 14(-7.55,2.75) 15(-7.55,2.25) 16(-7.55,1.75) 17(-7.55,1.25) 18(-7.55,0.75) 19(-7.55,0.25) 20(-7.55,-0.25) 21(-7.55,-0.75) 22(-7.55,-1.25) 23(-7.55,-1.75) 24(-7.55,-2.25) 25(-7.55,-2.75) 26(-7.55,-3.25) 27(-7.55,-3.75) 28(-7.55,-4.25) 29(-7.55,-4.75) 30(-7.55,-5.25) 31(-7.55,-5.75) 32(-7.55,-6.25) 33(-7.55,-6.75) 34(-7.55,-7.25) 35(-7.55,-7.75) 36(-7.55,-8.25) 37(-7.55,-8.75) 38(-7.55,-9.25) 65(7.55,-9.25) 66(7.55,-8.75) 67(7.55,-8.25) 68(7.55,-7.75) 69(7.55,-7.25) 70(7.55,-6.75) 71(7.55,-6.25) 72(7.55,-5.75) 73(7.55,-5.25) 74(7.55,-4.75) 75(7.55,-4.25) 76(7.55,-3.75) 77(7.55,-3.25) 78(7.55,-2.75) 79(7.55,-2.25) 80(7.55,-1.75) 81(7.55,-1.25) 82(7.55,-0.75) 83(7.55,-0.25) 84(7.55,0.25) 85(7.55,0.75) 86(7.55,1.25) 87(7.55,1.75) 88(7.55,2.25) 89(7.55,2.75) 90(7.55,3.25) 91(7.55,3.75) 92(7.55,4.25) 93(7.55,4.75) 94(7.55,5.25) 95(7.55,5.75) 96(7.55,6.25) 97(7.55,6.75) 98(7.55,7.25) 99(7.55,7.75) 100(7.55,8.25) 101(7.55,8.75) 102(7.55,9.25)
  oval 0.3x1.8 smd: 39(-6.25,-10.55) 40(-5.75,-10.55) 41(-5.25,-10.55) 42(-4.75,-10.55) 43(-4.25,-10.55) 44(-3.75,-10.55) 45(-3.25,-10.55) 46(-2.75,-10.55) 47(-2.25,-10.55) 48(-1.75,-10.55) 49(-1.25,-10.55) 50(-0.75,-10.55) 51(-0.25,-10.55) 52(0.25,-10.55) 53(0.75,-10.55) 54(1.25,-10.55) 55(1.75,-10.55) 56(2.25,-10.55) 57(2.75,-10.55) 58(3.25,-10.55) 59(3.75,-10.55) 60(4.25,-10.55) 61(4.75,-10.55) 62(5.25,-10.55) 63(5.75,-10.55) 64(6.25,-10.55) 103(6.25,10.55) 104(5.75,10.55) 105(5.25,10.55) 106(4.75,10.55) 107(4.25,10.55) 108(3.75,10.55) 109(3.25,10.55) 110(2.75,10.55) 111(2.25,10.55) 112(1.75,10.55) 113(1.25,10.55) 114(0.75,10.55) 115(0.25,10.55) 116(-0.25,10.55) 117(-0.75,10.55) 118(-1.25,10.55) 119(-1.75,10.55) 120(-2.25,10.55) 121(-2.75,10.55) 122(-3.25,10.55) 123(-3.75,10.55) 124(-4.25,10.55) 125(-4.75,10.55) 126(-5.25,10.55) 127(-5.75,10.55) 128(-6.25,10.55)
Top Overlay:
  circle w0.6: c-5.25,8.25 r0.3
  circle w0.25: c-7.55,10.55 r0.125
  lines w0.2: -6.25,-9.25 6.25,-9.25 6.25,9.25 -6.25,9.25 -6.25,-9.25
Mechanical 13:
  circle w0.1: c-6.1,9.1 r0.5
  lines w0.1: -7,-10 7,-10 7,10 -7,10 -7,-10
Mechanical 15:
  lines w0.05: -8.7,-11.7 8.7,-11.7 8.7,11.7 -8.7,11.7 -8.7,-11.7
  lines w0.1: -0.5,0 0.5,0 ; 0,-0.5 0,0.5
3D body: height 1.6, standoff 0, extent -7,-10 7,10